# EAGLE library part SL811ST (library Traficon)
Embedded USB Host/Slave Controller
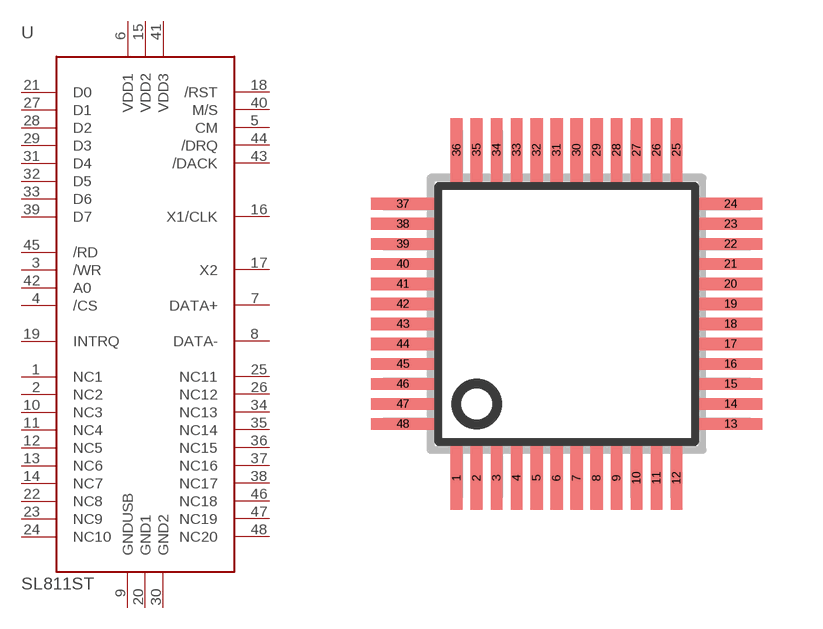
[diagram p4: symbol with the pads of SQFP-S-7X7-48; footprint SQFP-S-7X7-48]

Designator prefix -

## SL811ST  [SQFP-S-7X7-48]
1  NC1  pas
2  NC2  pas
3  /WR  in
4  /CS  in
5  CM  in
6  VDD1  pas
7  DATA+
8  DATA-
9  GNDUSB  pas
10  NC3  pas
11  NC4  pas
12  NC5  pas
13  NC6  pas
14  NC7  pas
15  VDD2  pas
16  X1/CLK  in
17  X2  out
18  /RST  in
19  INTRQ  out
20  GND1  pas
21  D0
22  NC8  pas
23  NC9  pas
24  NC10  pas
25  NC11  pas
26  NC12  pas
27  D1
28  D2
29  D3
30  GND2  pas
31  D4
32  D5
33  D6
34  NC13
35  NC14  pas
36  NC15  pas
37  NC16  pas
38  NC17  pas
39  D7
40  M/S  pas
41  VDD3  pas
42  A0  in
43  /DACK  in
44  /DRQ  out
45  /RD  in
46  NC18  pas
47  NC19  pas
48  NC20  pas

## Footprint SQFP-S-7X7-48 (pad centres in mm)
QFP48 shrink quad flat pack, square
smd 0.3 x 1.6: 1 -2.75,-4.1; 2 -2.25,-4.1; 3 -1.75,-4.1; 4 -1.25,-4.1; 5 -0.75,-4.1; 6 -0.25,-4.1; 7 0.25,-4.1; 8 0.75,-4.1; 9 1.25,-4.1; 10 1.75,-4.1; 11 2.25,-4.1; 12 2.75,-4.1; 25 2.75,4.1; 26 2.25,4.1; 27 1.75,4.1; 28 1.25,4.1; 29 0.75,4.1; 30 0.25,4.1; 31 -0.25,4.1; 32 -0.75,4.1; 33 -1.25,4.1; 34 -1.75,4.1; 35 -2.25,4.1; 36 -2.75,4.1
smd 1.6 x 0.3: 13 4.1,-2.75; 14 4.1,-2.25; 15 4.1,-1.75; 16 4.1,-1.25; 17 4.1,-0.75; 18 4.1,-0.25; 19 4.1,0.25; 20 4.1,0.75; 21 4.1,1.25; 22 4.1,1.75; 23 4.1,2.25; 24 4.1,2.75; 37 -4.1,2.75; 38 -4.1,2.25; 39 -4.1,1.75; 40 -4.1,1.25; 41 -4.1,0.75; 42 -4.1,0.25; 43 -4.1,-0.25; 44 -4.1,-0.75; 45 -4.1,-1.25; 46 -4.1,-1.75; 47 -4.1,-2.25; 48 -4.1,-2.75